# EAGLE library part LM2576 (library AWJLEagleLib)
Texas Instruments LM2576 Simple Switcher
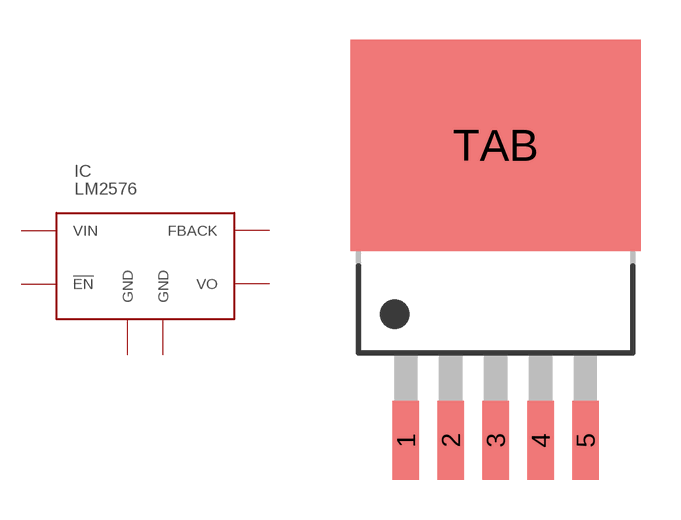
[diagram p12: symbol with the pads of TO263-5; footprint TO263-5]

Designator prefix IC

## LM2576S  [TO263-5]
1  VIN
2  VO
3  GND
4  FBACK
5  !EN
TAB  GND

## Footprint TO263-5 (pad centres in mm)
smd 1 x 3: 1 -3.4,-8; 2 -1.7,-8; 3 0,-8; 4 1.7,-8; 5 3.4,-8
smd 11 x 8: TAB 0,3.175